# EAGLE library part MCP2562 (library Microchip)
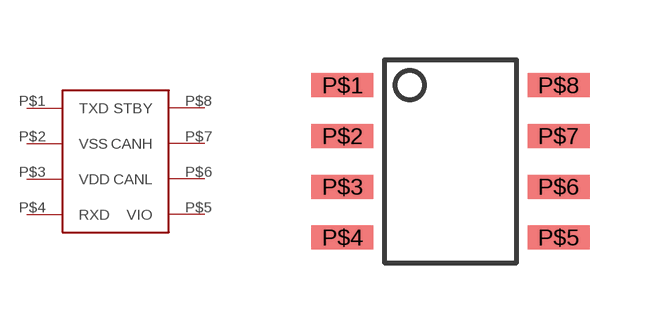
[diagram p1: symbol with the pads of SOIC8; footprint SOIC8]

Designator prefix -

## MCP2562MCP2561-SN  [SOIC8]
P$1  TXD
P$2  VSS
P$3  VDD
P$4  RXD
P$5  VIO
P$6  CANL
P$7  CANH
P$8  STBY

## Footprint SOIC8 (pad centres in mm)
smd 1.55 x 0.6: P$1 -2.7,1.905; P$2 -2.7,0.635; P$3 -2.7,-0.635; P$4 -2.7,-1.905; P$5 2.7,-1.905; P$6 2.7,-0.635; P$7 2.7,0.635; P$8 2.7,1.905